# Altium footprint library MiscPower.PcbLib: 174 footprints (part 1 of 12)
Each footprint in its own frame and in the unit in brackets; x right, y up, seen from the top. Pads: shape width x height; smd on the part's side, far side on the other; paste and mask are expansions set on the pad; w line width, h text height; cw(c..) or ccw(c..) is an arc to the next point about the centre after c.
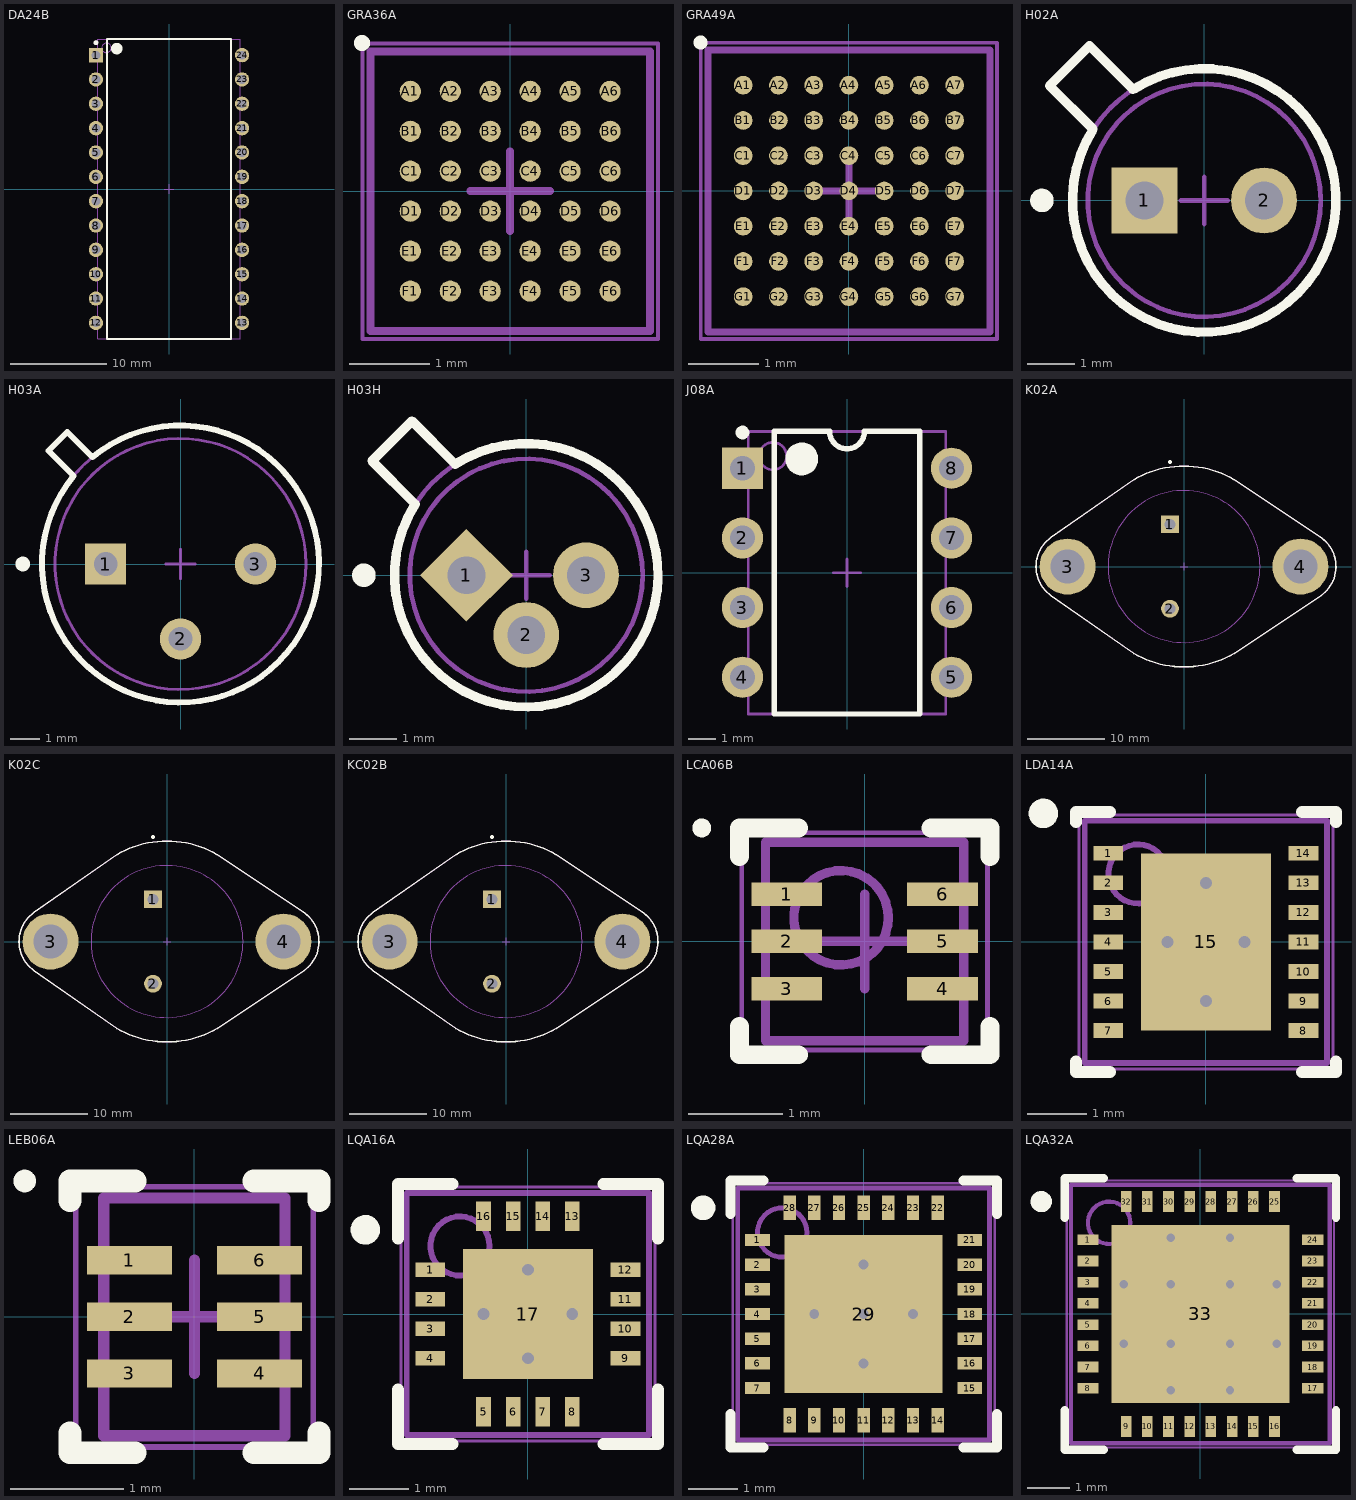
[diagram p0: the footprints below, top view; thin cyan lines are the x and y axes]

## DA24B [mm] "DIP, 24-Leads, Row Spacing 15.24mm, Pitch 2.54mm, Body 31.2x15.1mm"
height 5.34
pads (24):
  rect 1.5x1.5 hole 0.9: 1(-7.62,13.97)
  round 1.5 hole 0.9: 2(-7.62,11.43) 3(-7.62,8.89) 4(-7.62,6.35) 5(-7.62,3.81) 6(-7.62,1.27) 7(-7.62,-1.27) 8(-7.62,-3.81) 9(-7.62,-6.35) 10(-7.62,-8.89) 11(-7.62,-11.43) 12(-7.62,-13.97) 13(7.62,-13.97) 14(7.62,-11.43) 15(7.62,-8.89) 16(7.62,-6.35) 17(7.62,-3.81) 18(7.62,-1.27) 19(7.62,1.27) 20(7.62,3.81) 21(7.62,6.35) 22(7.62,8.89) 23(7.62,11.43) 24(7.62,13.97)
Top Overlay:
  circle w0.25: c-7.62,15.27 r0.125
  circle w0.6: c-5.45,14.65 r0.3
  lines w0.2: -6.45,-15.65 -6.45,15.65 6.45,15.65 6.45,-15.65 -6.45,-15.65
Mechanical 13:
  circle w0.1: c-6.525,14.725 r0.5
  lines w0.1: -7.425,-15.625 -7.425,15.625 7.425,15.625 7.425,-15.625 -7.425,-15.625
Mechanical 15:
  lines w0.1: -0.5,0 0.5,0 ; 0,-0.5 0,0.5
3D body: height 5.34, standoff 1.02, extent -7.424,-15.624 7.424,15.624

## GRA36A [mm] "BGA, 36-Leads, Body 3.5x3.5mm, Pitch 0.5mm, NSC Recommended"
height 1.1
pads (36):
  round 0.265 smd paste-0.132 mask+0.05: A1(-1.25,1.25) A2(-0.75,1.25) A3(-0.25,1.25) A4(0.25,1.25) A5(0.75,1.25) A6(1.25,1.25) B1(-1.25,0.75) B2(-0.75,0.75) B3(-0.25,0.75) B4(0.25,0.75) B5(0.75,0.75) B6(1.25,0.75) C1(-1.25,0.25) C2(-0.75,0.25) C3(-0.25,0.25) C4(0.25,0.25) C5(0.75,0.25) C6(1.25,0.25) D1(-1.25,-0.25) D2(-0.75,-0.25) D3(-0.25,-0.25) D4(0.25,-0.25) D5(0.75,-0.25) D6(1.25,-0.25) E1(-1.25,-0.75) E2(-0.75,-0.75) E3(-0.25,-0.75) E4(0.25,-0.75) E5(0.75,-0.75) E6(1.25,-0.75) F1(-1.25,-1.25) F2(-0.75,-1.25) F3(-0.25,-1.25) F4(0.25,-1.25) F5(0.75,-1.25) F6(1.25,-1.25)
Top Overlay:
  circle w0.1: c-1.855,1.855 r0.05
Top Paste:
  drawing of 324 lines, arcs and shapes, not listed
Mechanical 13:
  lines w0.1: -1.75,-1.75 1.75,-1.75 1.75,1.75 -1.75,1.75 -1.75,-1.75
Mechanical 15:
  lines w0.05: -1.85,-1.85 1.85,-1.85 1.85,1.85 -1.85,1.85 -1.85,-1.85
  lines w0.1: -0.5,0 0.5,0 ; 0,-0.5 0,0.5
3D body: height 1.1, standoff 0, extent -1.75,-1.75 1.75,1.75

## GRA49A [mm] "BGA, 49-Leads, Body 4x4mm, Pitch 0.5mm, NSC Recommended"
height 1.1
pads (49):
  round 0.265 smd paste-0.132 mask+0.05: A1(-1.5,1.5) A2(-1,1.5) A3(-0.5,1.5) A4(0,1.5) A5(0.5,1.5) A6(1,1.5) A7(1.5,1.5) B1(-1.5,1) B2(-1,1) B3(-0.5,1) B4(0,1) B5(0.5,1) B6(1,1) B7(1.5,1) C1(-1.5,0.5) C2(-1,0.5) C3(-0.5,0.5) C4(0,0.5) C5(0.5,0.5) C6(1,0.5) C7(1.5,0.5) D1(-1.5,0) D2(-1,0) D3(-0.5,0) D4(0,0) D5(0.5,0) D6(1,0) D7(1.5,0) E1(-1.5,-0.5) E2(-1,-0.5) E3(-0.5,-0.5) E4(0,-0.5) E5(0.5,-0.5) E6(1,-0.5) E7(1.5,-0.5) F1(-1.5,-1) F2(-1,-1) F3(-0.5,-1) F4(0,-1) F5(0.5,-1) F6(1,-1) F7(1.5,-1) G1(-1.5,-1.5) G2(-1,-1.5) G3(-0.5,-1.5) G4(0,-1.5) G5(0.5,-1.5) G6(1,-1.5) G7(1.5,-1.5)
Top Overlay:
  circle w0.1: c-2.105,2.105 r0.05
Top Paste:
  drawing of 441 lines, arcs and shapes, not listed
Mechanical 13:
  lines w0.1: -2,-2 -2,2 2,2 2,-2 -2,-2
Mechanical 15:
  lines w0.05: -2.1,-2.1 -2.1,2.1 2.1,2.1 2.1,-2.1 -2.1,-2.1
  lines w0.1: -0.5,0 0.5,0 ; 0,-0.5 0,0.5
3D body: height 1.1, standoff 0, extent -2,-2 2,2

## H02A [mm] "Can; 2 Leads; Pin Circle Dia. 2.54 mm; Lead Dia. 0.48 mm (max)"
height 2.67
pads (2):
  rect 1.4x1.4 hole 0.8: 1(-1.27,0)
  round 1.4 hole 0.8: 2(1.27,0)
Top Overlay:
  circle w0.25: c-3.45,0 r0.125
  lines w0.2: -2.375,1.484 ccw(c0,0) -1.484,2.375 ; -2.367,1.518 -3.286,2.437 -2.437,3.286 -1.518,2.367
Mechanical 13:
  circle w0.1: c0,0 r2.8
  circle w0.1: c0,0 r2.475
Mechanical 15:
  lines w0.1: -0.5,0 0.5,0 ; 0,-0.5 0,0.5
3D body: height 0.76, standoff 0, extent -2.799,-2.799 2.799,2.799
3D body: height 2.67, standoff 0.76, extent -2.474,-2.474 2.474,2.474

## H03A [mm] "Can; 3 Leads; Pin Circle Dia. 5.08 mm; Lead Dia. 0.48 mm (max)"
height 4.7
pads (3):
  rect 1.4x1.4 hole 0.8: 1(-2.54,0)
  round 1.4 hole 0.8: 2(0,-2.54) 3(2.54,0)
Top Overlay:
  circle w0.25: c-5.35,0 r0.125
  lines w0.2: -3.626,2.99 -4.475,3.838 -3.838,4.475 -2.99,3.626 ; -3.622,2.987 ccw(c0,0) -2.987,3.622
Mechanical 13:
  circle w0.1: c0,0 r4.255
  circle w0.1: c0,0 r4.695
Mechanical 15:
  lines w0.1: -0.5,0 0.5,0 ; 0,-0.5 0,0.5
3D body: height 4.7, standoff 1.27, extent -4.254,-4.254 4.254,4.254
3D body: height 1.27, standoff 0, extent -4.694,-4.694 4.694,4.694

## H03H [mm] "Can; 3 Leads; Pin Circle Dia. 2.54 mm; Lead Dia. 0.48 mm (max)"
height 2.67
pads (3):
  rect 1.4x1.4 hole 0.8 rot 45: 1(-1.27,0)
  round 1.4 hole 0.8: 2(0,-1.27) 3(1.27,0)
Top Overlay:
  circle w0.25: c-3.45,0 r0.125
  lines w0.2: -3.277,2.429 -2.429,3.277 -1.51,2.358 cw(c0,0) -2.358,1.51 -3.277,2.429
Mechanical 13:
  circle w0.1: c0,0 r2.475
  circle w0.1: c0,0 r2.8
Mechanical 15:
  lines w0.1: -0.5,0 0.5,0 ; 0,-0.5 0,0.5
3D body: height 2.67, standoff 0.76, extent -2.474,-2.474 2.474,2.474
3D body: height 0.76, standoff 0, extent -2.799,-2.799 2.799,2.799

## J08A [mm] "DIP, 8-Pin, Row Spacing 7.62 mm, Pitch 2.54 mm"
height 5.08
pads (8):
  rect 1.5x1.5 hole 0.9: 1(-3.81,3.81)
  round 1.5 hole 0.9: 2(-3.81,1.27) 3(-3.81,-1.27) 4(-3.81,-3.81) 5(3.81,-3.81) 6(3.81,-1.27) 7(3.81,1.27) 8(3.81,3.81)
Top Overlay:
  circle w0.6: c-1.65,4.15 r0.3
  circle w0.25: c-3.81,5.11 r0.125
  lines w0.2: -2.65,-5.15 2.65,-5.15 2.65,5.15 0.635,5.15 cw(c0,5.15) -0.635,5.15 -2.65,5.15 -2.65,-5.15
Mechanical 13:
  circle w0.1: c-2.7,4.25 r0.5
  lines w0.1: -3.6,-5.15 3.6,-5.15 3.6,5.15 -3.6,5.15 -3.6,-5.15
Mechanical 15:
  lines w0.1: -0.5,0 0.5,0 ; 0,-0.5 0,0.5
3D body: height 5.08, standoff 0, extent -3.6,-5.15 3.6,5.15

## K02A [mm] "Oval Flange Mount with (2) Offset Leads; Pin Spacing 10.93 mm; Lead Dia. 1.09 mm (max)"
height 8.94
pads (4):
  rect 2.3x2.3 hole 1.4: 1(-1.815,5.46)
  round 2.3 hole 1.4: 2(-1.815,-5.46)
  round 7.25 hole 4.4: 3(-15.075,0) 4(15.075,0)
Top Overlay:
  circle w0.25: c-1.815,13.53 r0.125
  lines w0.2: -17.2,-3.767 cw(c-14.561,0.001) -17.2,3.769 -6.5,11.258 cw(c0,0) 6.5,11.258 17.58,3.858 cw(c15.075,0) 17.713,-3.768 6.5,-11.258 cw(c0,0) -6.5,-11.258 -17.2,-3.767
Mechanical 13:
  circle w0.1: c0,0 r9.84
  lines w0.1: -17.2,-3.767 cw(c-14.561,0.001) -17.2,3.769 -6.5,11.258 cw(c0,0) 6.5,11.258 17.58,3.858 cw(c15.075,0) 17.713,-3.768 6.5,-11.258 cw(c0,0) -6.5,-11.258 -17.2,-3.767
Mechanical 15:
  lines w0.1: -0.5,0 0.5,0 ; 0,-0.5 0,0.5
3D body: height 1.77, standoff 0, extent -19.162,-13.001 19.676,13.001
3D body: height 8.94, standoff 1.77, extent -9.839,-9.839 9.839,9.839

## K02C [mm] "Oval Flange Mount with (2) Offset Leads; Pin Spacing 10.93 mm; Lead Dia. 1.09 mm (max)"
height 7.74
pads (4):
  rect 2.3x2.3 hole 1.4: 1(-1.815,5.46)
  round 2.3 hole 1.4: 2(-1.815,-5.46)
  round 7.25 hole 4.4: 3(-15.075,0) 4(15.075,0)
Top Overlay:
  circle w0.25: c-1.815,13.53 r0.125
  lines w0.2: -17.2,-3.767 cw(c-14.561,0.001) -17.2,3.769 -6.5,11.258 cw(c0,0) 6.5,11.258 17.58,3.858 cw(c15.075,0) 17.713,-3.768 6.5,-11.258 cw(c0,0) -6.5,-11.258 -17.2,-3.767
Mechanical 13:
  circle w0.1: c0,0 r9.84
  lines w0.1: -17.2,-3.767 cw(c-14.561,0.001) -17.2,3.769 -6.5,11.258 cw(c0,0) 6.5,11.258 17.58,3.858 cw(c15.075,0) 17.713,-3.768 6.5,-11.258 cw(c0,0) -6.5,-11.258 -17.2,-3.767
Mechanical 15:
  lines w0.1: -0.5,0 0.5,0 ; 0,-0.5 0,0.5
3D body: height 1.77, standoff 0, extent -19.162,-13.001 19.676,13.001
3D body: height 7.74, standoff 1.77, extent -9.839,-9.839 9.839,9.839

## KC02B [mm] "Oval Flange Mount with (2) Offset Leads; Pin Spacing 10.93 mm; Lead Dia. 1.09 mm (max)"
height 8.95
pads (4):
  rect 2.3x2.3 hole 1.4: 1(-1.815,5.46)
  round 2.3 hole 1.4: 2(-1.815,-5.46)
  round 7.25 hole 4.4: 3(-15.075,0) 4(15.075,0)
Top Overlay:
  circle w0.25: c-1.815,13.53 r0.125
  lines w0.2: -17.2,-3.767 cw(c-14.561,0.001) -17.2,3.769 -6.5,11.258 cw(c0,0) 6.5,11.258 17.58,3.858 cw(c15.075,0) 17.713,-3.768 6.5,-11.258 cw(c0,0) -6.5,-11.258 -17.2,-3.767
Mechanical 13:
  circle w0.1: c0,0 r9.84
  lines w0.1: -17.2,-3.767 cw(c-14.561,0.001) -17.2,3.769 -6.5,11.258 cw(c0,0) 6.5,11.258 17.58,3.858 cw(c15.075,0) 17.713,-3.768 6.5,-11.258 cw(c0,0) -6.5,-11.258 -17.2,-3.767
Mechanical 15:
  lines w0.1: -0.5,0 0.5,0 ; 0,-0.5 0,0.5
3D body: height 1.77, standoff 0, extent -19.162,-13.001 19.676,13.001
3D body: height 8.95, standoff 1.77, extent -9.839,-9.839 9.839,9.839

## LCA06B [mm] "SON, 6-Leads, Body 2x2mm, Pitch 0.5mm, NSC Recommended"
height 0.6
pads (6):
  rect 0.75x0.25 smd paste-0.125 mask+0.051: 1(-0.825,0.5) 2(-0.825,0) 3(-0.825,-0.5) 4(0.825,-0.5) 5(0.825,0) 6(0.825,0.5)
Top Overlay:
  circle w0.1: c-1.725,1.2 r0.05
  lines w0.2: -1.325,-0.9 -1.325,-1.2 -0.7,-1.2 ; -1.325,0.9 -1.325,1.2 -0.7,1.2 ; 0.7,-1.2 1.325,-1.2 1.325,-0.9 ; 0.7,1.2 1.325,1.2 1.325,0.9
Top Paste:
  region: -0.55,-0.375 -1.4,-0.375 -1.4,-0.625 -0.55,-0.625
  region: -0.55,0.125 -1.4,0.125 -1.4,-0.125 -0.55,-0.125
  region: -0.55,0.625 -1.4,0.625 -1.4,0.375 -0.55,0.375
  rectangle: 0.55,0.375 1.4,0.625
  rectangle: 0.55,-0.125 1.4,0.125
  rectangle: 0.55,-0.625 1.4,-0.375
Mechanical 13:
  circle w0.1: c-0.25,0.25 r0.5
  lines w0.1: -1.05,-1.05 1.05,-1.05 1.05,1.05 -1.05,1.05 -1.05,-1.05
Mechanical 15:
  lines w0.05: -1.3,-1.15 -1.3,1.15 ; -1.175,-1.15 1.175,-1.15 ; -1.175,1.15 1.175,1.15 ; 1.3,-1.15 1.3,1.15
  lines w0.1: -0.5,0 0.5,0 ; 0,-0.5 0,0.5
3D body: height 0.6, standoff 0, extent -1.049,-1.049 1.049,1.049

## LDA14A [mm] "PSON, 14-Leads, Body 4x4mm, Pitch 0.5mm, NSC Recommended"
height 0.8
pads (15):
  rect 0.5x0.25 smd paste-0.125 mask+0.051: 1(-1.65,1.5) 2(-1.65,1) 3(-1.65,0.5) 4(-1.65,0) 5(-1.65,-0.5) 6(-1.65,-1) 7(-1.65,-1.5) 8(1.65,-1.5) 9(1.65,-1) 10(1.65,-0.5) 11(1.65,0) 12(1.65,0.5) 13(1.65,1) 14(1.65,1.5)
  rect 2.2x3 smd paste-1.3 mask+0.051: 15(0,0)
via 0.65,0 diameter 0.5 hole 0.2
via -0.65,0 diameter 0.5 hole 0.2
via 0,-1 diameter 0.5 hole 0.2
via 0,1 diameter 0.5 hole 0.2
Top Overlay:
  circle w0.25: c-2.75,2.175 r0.125
  lines w0.2: -2.2,-2.025 -2.2,-2.2 -1.625,-2.2 ; -2.2,2.025 -2.2,2.2 -1.625,2.2 ; 1.625,-2.2 2.2,-2.2 2.2,-2.025 ; 1.625,2.2 2.2,2.2 2.2,2.025
Top Paste:
  region: -1.5,1.625 -2,1.625 -2,1.375 -1.5,1.375
  region: -1.5,1.125 -2,1.125 -2,0.875 -1.5,0.875
  region: -1.5,0.625 -2,0.625 -2,0.375 -1.5,0.375
  region: -1.5,0.125 -2,0.125 -2,-0.125 -1.5,-0.125
  region: -1.5,-0.375 -2,-0.375 -2,-0.625 -1.5,-0.625
  region: -1.5,-0.875 -2,-0.875 -2,-1.125 -1.5,-1.125
  region: -1.5,-1.375 -2,-1.375 -2,-1.625 -1.5,-1.625
  rectangle: 1.5,-1.625 2,-1.375
  rectangle: 1.5,-1.125 2,-0.875
  rectangle: 1.5,-0.625 2,-0.375
  rectangle: 1.5,-0.125 2,0.125
  rectangle: 1.5,0.375 2,0.625
  rectangle: 1.5,0.875 2,1.125
  rectangle: 1.5,1.375 2,1.625
  region: 1,1.4 0.1,1.4 0.1,0.1 1,0.1
  region: 1,-0.1 0.1,-0.1 0.1,-1.4 1,-1.4
  rectangle: -1,-1.4 -0.1,-0.1
  rectangle: -1,0.1 -0.1,1.4
Mechanical 13:
  circle w0.1: c-1.15,1.15 r0.5
  lines w0.1: -2.05,-2.05 -2.05,2.05 2.05,2.05 2.05,-2.05 -2.05,-2.05
Mechanical 15:
  lines w0.05: -2.15,-2.15 2.15,-2.15 2.15,2.15 -2.15,2.15 -2.15,-2.15
  lines w0.1: -0.5,0 0.5,0 ; 0,-0.5 0,0.5
3D body: height 0.8, standoff 0, extent -2.049,-2.049 2.049,2.049

## LEB06A [mm] "SON, 6-Leads, Body 2x1.5mm, Pitch 0.5mm, NSC Recommended"
height 0.6
pads (6):
  rect 0.75x0.25 smd paste-0.125 mask+0.051: 1(-0.575,0.5) 2(-0.575,0) 3(-0.575,-0.5) 4(0.575,-0.5) 5(0.575,0) 6(0.575,0.5)
Top Overlay:
  circle w0.1: c-1.5,1.2 r0.05
  lines w0.2: -1.1,-1.025 -1.1,-1.2 -0.525,-1.2 ; -1.1,1.025 -1.1,1.2 -0.525,1.2 ; 0.525,-1.2 1.1,-1.2 1.1,-1.025 ; 0.525,1.2 1.1,1.2 1.1,1.025
Top Paste:
  region: 1.1,0.625 0.25,0.625 0.25,0.375 1.1,0.375
  region: 1.1,0.125 0.25,0.125 0.25,-0.125 1.1,-0.125
  region: 1.1,-0.375 0.25,-0.375 0.25,-0.625 1.1,-0.625
  rectangle: -1.15,-0.625 -0.3,-0.375
  rectangle: -1.15,-0.125 -0.3,0.125
  rectangle: -1.15,0.375 -0.3,0.625
Mechanical 13:
  lines w0.1: -0.8,-1.05 -0.8,1.05 0.8,1.05 0.8,-1.05 -0.8,-1.05
Mechanical 15:
  lines w0.05: -1.05,-1.15 -1.05,1.15 1.05,1.15 1.05,-1.15 -1.05,-1.15
  lines w0.1: -0.5,0 0.5,0 ; 0,-0.5 0,0.5
3D body: height 0.6, standoff 0, extent -0.799,-1.049 0.799,1.049

## LQA16A [mm] "QFN, 16-Leads, Body 4x4mm, Pitch 0.5mm, NSC Recommended"
height 0.8
pads (17):
  rect 0.5x0.25 smd paste-0.125 mask+0.051: 1(-1.65,0.75) 2(-1.65,0.25) 3(-1.65,-0.25) 4(-1.65,-0.75) 9(1.65,-0.75) 10(1.65,-0.25) 11(1.65,0.25) 12(1.65,0.75)
  rect 0.25x0.5 smd paste-0.125 mask+0.051: 5(-0.75,-1.65) 6(-0.25,-1.65) 7(0.25,-1.65) 8(0.75,-1.65) 13(0.75,1.65) 14(0.25,1.65) 15(-0.25,1.65) 16(-0.75,1.65)
  rect 2.2x2.2 smd paste-1.1 mask+0.051: 17(0,0)
via 0,-0.75 diameter 0.5 hole 0.2
via 0,0.75 diameter 0.5 hole 0.2
via -0.75,0 diameter 0.5 hole 0.2
via 0.75,0 diameter 0.5 hole 0.2
Top Overlay:
  circle w0.25: c-2.75,1.425 r0.125
  lines w0.2: -2.2,-1.275 -2.2,-2.2 -1.275,-2.2 ; -2.2,1.275 -2.2,2.2 -1.275,2.2 ; 1.275,-2.2 2.2,-2.2 2.2,-1.275 ; 1.275,2.2 2.2,2.2 2.2,1.275
Top Paste:
  region: 0.625,2 0.625,1.5 0.875,1.5 0.875,2
  region: 0.125,2 0.125,1.5 0.375,1.5 0.375,2
  region: -0.375,2 -0.375,1.5 -0.125,1.5 -0.125,2
  region: -0.875,2 -0.875,1.5 -0.625,1.5 -0.625,2
  region: 2,-0.625 1.5,-0.625 1.5,-0.875 2,-0.875
  region: 2,-0.125 1.5,-0.125 1.5,-0.375 2,-0.375
  region: 2,0.375 1.5,0.375 1.5,0.125 2,0.125
  region: 2,0.875 1.5,0.875 1.5,0.625 2,0.625
  region: -0.625,-2 -0.625,-1.5 -0.875,-1.5 -0.875,-2
  region: -0.125,-2 -0.125,-1.5 -0.375,-1.5 -0.375,-2
  region: 0.375,-2 0.375,-1.5 0.125,-1.5 0.125,-2
  region: 0.875,-2 0.875,-1.5 0.625,-1.5 0.625,-2
  rectangle: -2,-0.875 -1.5,-0.625
  rectangle: -2,-0.375 -1.5,-0.125
  rectangle: -2,0.125 -1.5,0.375
  rectangle: -2,0.625 -1.5,0.875
  rectangle: 0.15,0.15 1,1
  region: -0.15,0.15 -0.15,1 -1,1 -1,0.15
  region: -0.15,-0.15 -1,-0.15 -1,-1 -0.15,-1
  region: 0.15,-0.15 0.15,-1 1,-1 1,-0.15
Mechanical 13:
  circle w0.1: c-1.15,1.15 r0.5
  lines w0.1: -2.05,-2.05 -2.05,2.05 2.05,2.05 2.05,-2.05 -2.05,-2.05
Mechanical 15:
  lines w0.05: -2.15,-2.15 -2.15,2.15 2.15,2.15 2.15,-2.15 -2.15,-2.15
  lines w0.1: -0.5,0 0.5,0 ; 0,-0.5 0,0.5
3D body: height 0.8, standoff 0, extent -2.05,-2.05 2.05,2.05

## LQA28A [mm] "PQFN, 28-Leads, Body 5x5mm, Pitch 0.5mm, NSC Recommended"
height 0.8
pads (29):
  rect 0.5x0.25 smd paste-0.125 mask+0.051: 1(-2.15,1.5) 2(-2.15,1) 3(-2.15,0.5) 4(-2.15,0) 5(-2.15,-0.5) 6(-2.15,-1) 7(-2.15,-1.5) 15(2.15,-1.5) 16(2.15,-1) 17(2.15,-0.5) 18(2.15,0) 19(2.15,0.5) 20(2.15,1) 21(2.15,1.5)
  rect 0.25x0.5 smd paste-0.125 mask+0.051: 8(-1.5,-2.15) 9(-1,-2.15) 10(-0.5,-2.15) 11(0,-2.15) 12(0.5,-2.15) 13(1,-2.15) 14(1.5,-2.15) 22(1.5,2.15) 23(1,2.15) 24(0.5,2.15) 25(0,2.15) 26(-0.5,2.15) 27(-1,2.15) 28(-1.5,2.15)
  rect 3.2x3.2 smd paste-1.6 mask+0.051: 29(0,0)
via 0,-1 diameter 0.5 hole 0.2
via 1,0 diameter 0.5 hole 0.2
via 0,0 diameter 0.5 hole 0.2
via -1,0 diameter 0.5 hole 0.2
via 0,1 diameter 0.5 hole 0.2
Top Overlay:
  circle w0.25: c-3.25,2.15 r0.125
  lines w0.2: -2.7,-2.025 -2.7,-2.7 -2.025,-2.7 ; -2.7,2.025 -2.7,2.7 -2.025,2.7 ; 2.025,-2.7 2.7,-2.7 2.7,-2.025 ; 2.025,2.7 2.7,2.7 2.7,2.025
Top Paste:
  rectangle: 0.15,-1.5 1.5,-0.15
  region: -0.15,-0.15 -1.5,-0.15 -1.5,-1.5 -0.15,-1.5
  region: -0.15,1.5 -1.5,1.5 -1.5,0.15 -0.15,0.15
  rectangle: 0.15,0.15 1.5,1.5
  region: 1.625,-2.5 1.625,-2 1.375,-2 1.375,-2.5
  region: 1.125,-2.5 1.125,-2 0.875,-2 0.875,-2.5
  region: 0.625,-2.5 0.625,-2 0.375,-2 0.375,-2.5
  region: 0.125,-2.5 0.125,-2 -0.125,-2 -0.125,-2.5
  region: -0.375,-2.5 -0.375,-2 -0.625,-2 -0.625,-2.5
  region: -0.875,-2.5 -0.875,-2 -1.125,-2 -1.125,-2.5
  region: -1.375,-2.5 -1.375,-2 -1.625,-2 -1.625,-2.5
  region: -1.625,2.5 -1.625,2 -1.375,2 -1.375,2.5
  region: -1.125,2.5 -1.125,2 -0.875,2 -0.875,2.5
  region: -0.625,2.5 -0.625,2 -0.375,2 -0.375,2.5
  region: -0.125,2.5 -0.125,2 0.125,2 0.125,2.5
  region: 0.375,2.5 0.375,2 0.625,2 0.625,2.5
  region: 0.875,2.5 0.875,2 1.125,2 1.125,2.5
  region: 1.375,2.5 1.375,2 1.625,2 1.625,2.5
  region: 2.5,1.625 2,1.625 2,1.375 2.5,1.375
  region: 2.5,1.125 2,1.125 2,0.875 2.5,0.875
  region: 2.5,0.625 2,0.625 2,0.375 2.5,0.375
  region: 2.5,0.125 2,0.125 2,-0.125 2.5,-0.125
  region: 2.5,-0.375 2,-0.375 2,-0.625 2.5,-0.625
  region: 2.5,-0.875 2,-0.875 2,-1.125 2.5,-1.125
  region: 2.5,-1.375 2,-1.375 2,-1.625 2.5,-1.625
  rectangle: -2.5,-1.625 -2,-1.375
  rectangle: -2.5,-1.125 -2,-0.875
  rectangle: -2.5,-0.625 -2,-0.375
  rectangle: -2.5,-0.125 -2,0.125
  rectangle: -2.5,0.375 -2,0.625
  rectangle: -2.5,0.875 -2,1.125
  rectangle: -2.5,1.375 -2,1.625
Mechanical 13:
  circle w0.1: c-1.65,1.65 r0.5
  lines w0.1: -2.55,-2.55 2.55,-2.55 2.55,2.55 -2.55,2.55 -2.55,-2.55
Mechanical 15:
  lines w0.05: -2.65,-2.65 2.65,-2.65 2.65,2.65 -2.65,2.65 -2.65,-2.65
  lines w0.1: -0.5,0 0.5,0 ; 0,-0.5 0,0.5
3D body: height 0.8, standoff 0, extent -2.55,-2.55 2.55,2.55

## LQA32A [mm] "PQFN, 32-Leads, Body 6x6mm, Pitch 0.5mm, NSC Recommended"
height 0.8
pads (33):
  rect 0.5x0.25 smd paste-0.125 mask+0.051: 1(-2.65,1.75) 2(-2.65,1.25) 3(-2.65,0.75) 4(-2.65,0.25) 5(-2.65,-0.25) 6(-2.65,-0.75) 7(-2.65,-1.25) 8(-2.65,-1.75) 17(2.65,-1.75) 18(2.65,-1.25) 19(2.65,-0.75) 20(2.65,-0.25) 21(2.65,0.25) 22(2.65,0.75) 23(2.65,1.25) 24(2.65,1.75)
  rect 0.25x0.5 smd paste-0.125 mask+0.051: 9(-1.75,-2.65) 10(-1.25,-2.65) 11(-0.75,-2.65) 12(-0.25,-2.65) 13(0.25,-2.65) 14(0.75,-2.65) 15(1.25,-2.65) 16(1.75,-2.65) 25(1.75,2.65) 26(1.25,2.65) 27(0.75,2.65) 28(0.25,2.65) 29(-0.25,2.65) 30(-0.75,2.65) 31(-1.25,2.65) 32(-1.75,2.65)
  rect 4.2x4.2 smd paste-2.1 mask+0.051: 33(0,0)
via 1.8,0.7 diameter 0.5 hole 0.2
via -1.8,0.7 diameter 0.5 hole 0.2
via -0.7,0.7 diameter 0.5 hole 0.2
via 0.7,0.7 diameter 0.5 hole 0.2
via 1.8,-0.7 diameter 0.5 hole 0.2
via -1.8,-0.7 diameter 0.5 hole 0.2
via -0.7,-0.7 diameter 0.5 hole 0.2
via 0.7,-0.7 diameter 0.5 hole 0.2
via -0.7,-1.8 diameter 0.5 hole 0.2
via 0.7,-1.8 diameter 0.5 hole 0.2
via -0.7,1.8 diameter 0.5 hole 0.2
via 0.7,1.8 diameter 0.5 hole 0.2
Top Overlay:
  circle w0.25: c-3.75,2.65 r0.125
  lines w0.2: -3.2,-2.275 -3.2,-3.2 -2.275,-3.2 ; -3.2,2.275 -3.2,3.2 -2.275,3.2 ; 2.275,-3.2 3.2,-3.2 3.2,-2.275 ; 2.275,3.2 3.2,3.2 3.2,2.275
Top Paste:
  rectangle: 1.5,1.5 2,2
  region: 1.3,1.3 0.8,1.3 0.8,0.8 1.3,0.8
  region: 1.5,1.3 1.5,0.8 2,0.8 2,1.3
  region: 1.3,1.5 1.3,2 0.8,2 0.8,1.5
  rectangle: 1.5,0.1 2,0.6
  region: 1.3,-0.1 0.8,-0.1 0.8,-0.6 1.3,-0.6
  region: 1.5,-0.1 1.5,-0.6 2,-0.6 2,-0.1
  region: 1.3,0.1 1.3,0.6 0.8,0.6 0.8,0.1
  rectangle: 0.1,1.5 0.6,2
  region: -0.1,1.3 -0.6,1.3 -0.6,0.8 -0.1,0.8
  region: 0.1,1.3 0.1,0.8 0.6,0.8 0.6,1.3
  region: -0.1,1.5 -0.1,2 -0.6,2 -0.6,1.5
  rectangle: -1.3,1.5 -0.8,2
  region: -1.5,1.3 -2,1.3 -2,0.8 -1.5,0.8
  region: -1.3,1.3 -1.3,0.8 -0.8,0.8 -0.8,1.3
  region: -1.5,1.5 -1.5,2 -2,2 -2,1.5
  rectangle: 1.5,-1.3 2,-0.8
  region: 1.3,-1.5 0.8,-1.5 0.8,-2 1.3,-2
  region: 1.5,-1.5 1.5,-2 2,-2 2,-1.5
  region: 1.3,-1.3 1.3,-0.8 0.8,-0.8 0.8,-1.3
  rectangle: -1.3,-1.3 -0.8,-0.8
  region: -1.5,-1.5 -2,-1.5 -2,-2 -1.5,-2
  region: -1.3,-1.5 -1.3,-2 -0.8,-2 -0.8,-1.5
  region: -1.5,-1.3 -1.5,-0.8 -2,-0.8 -2,-1.3
  rectangle: -1.3,0.1 -0.8,0.6
  region: -1.5,-0.1 -2,-0.1 -2,-0.6 -1.5,-0.6
  region: -1.3,-0.1 -1.3,-0.6 -0.8,-0.6 -0.8,-0.1
  region: -1.5,0.1 -1.5,0.6 -2,0.6 -2,0.1
  rectangle: 0.1,-1.3 0.6,-0.8
  region: -0.1,-1.5 -0.6,-1.5 -0.6,-2 -0.1,-2
  region: 0.1,-1.5 0.1,-2 0.6,-2 0.6,-1.5
  region: -0.1,-1.3 -0.1,-0.8 -0.6,-0.8 -0.6,-1.3
  region: -0.1,0.1 -0.1,0.6 -0.6,0.6 -0.6,0.1
  region: 0.1,-0.1 0.1,-0.6 0.6,-0.6 0.6,-0.1
  region: -0.1,-0.1 -0.6,-0.1 -0.6,-0.6 -0.1,-0.6
  region: -3,-1.625 -3,-1.875 -2.5,-1.875 -2.5,-1.625
  region: -3,-1.125 -3,-1.375 -2.5,-1.375 -2.5,-1.125
  region: -3,-0.625 -3,-0.875 -2.5,-0.875 -2.5,-0.625
  region: -3,-0.125 -3,-0.375 -2.5,-0.375 -2.5,-0.125
  region: -3,0.375 -3,0.125 -2.5,0.125 -2.5,0.375
  region: -3,0.875 -3,0.625 -2.5,0.625 -2.5,0.875
  region: -3,1.375 -3,1.125 -2.5,1.125 -2.5,1.375
  region: -3,1.875 -3,1.625 -2.5,1.625 -2.5,1.875
  region: -1.625,3 -1.875,3 -1.875,2.5 -1.625,2.5
  region: -1.125,3 -1.375,3 -1.375,2.5 -1.125,2.5
  region: -0.625,3 -0.875,3 -0.875,2.5 -0.625,2.5
  region: -0.125,3 -0.375,3 -0.375,2.5 -0.125,2.5
  region: 0.375,3 0.125,3 0.125,2.5 0.375,2.5
  region: 0.875,3 0.625,3 0.625,2.5 0.875,2.5
  region: 1.375,3 1.125,3 1.125,2.5 1.375,2.5
  region: 1.875,3 1.625,3 1.625,2.5 1.875,2.5
  region: 3,1.625 3,1.875 2.5,1.875 2.5,1.625
  region: 3,1.125 3,1.375 2.5,1.375 2.5,1.125
  region: 3,0.625 3,0.875 2.5,0.875 2.5,0.625
  region: 3,0.125 3,0.375 2.5,0.375 2.5,0.125
  region: 3,-0.375 3,-0.125 2.5,-0.125 2.5,-0.375
  region: 3,-0.875 3,-0.625 2.5,-0.625 2.5,-0.875
  region: 3,-1.375 3,-1.125 2.5,-1.125 2.5,-1.375
  region: 3,-1.875 3,-1.625 2.5,-1.625 2.5,-1.875
  rectangle: 0.1,0.1 0.6,0.6
  rectangle: -1.875,-3 -1.625,-2.5
  rectangle: -1.375,-3 -1.125,-2.5
  rectangle: -0.875,-3 -0.625,-2.5
  rectangle: -0.375,-3 -0.125,-2.5
  rectangle: 0.125,-3 0.375,-2.5
  rectangle: 0.625,-3 0.875,-2.5
  rectangle: 1.125,-3 1.375,-2.5
  rectangle: 1.625,-3 1.875,-2.5
Mechanical 13:
  circle w0.1: c-2.15,2.15 r0.5
  lines w0.1: -3.05,-3.05 3.05,-3.05 3.05,3.05 -3.05,3.05 -3.05,-3.05
Mechanical 15:
  lines w0.05: -3.15,-3.15 3.15,-3.15 3.15,3.15 -3.15,3.15 -3.15,-3.15
  lines w0.1: -0.5,0 0.5,0 ; 0,-0.5 0,0.5
3D body: height 0.8, standoff 0, extent -3.05,-3.05 3.05,3.05